# Altium footprint library Connectors-usb.PcbLib: 1 footprints
Each footprint in its own frame and in the unit in brackets; x right, y up, seen from the top. Pads: shape width x height; smd on the part's side, far side on the other; paste and mask are expansions set on the pad; w line width, h text height; cw(c..) or ccw(c..) is an arc to the next point about the centre after c.
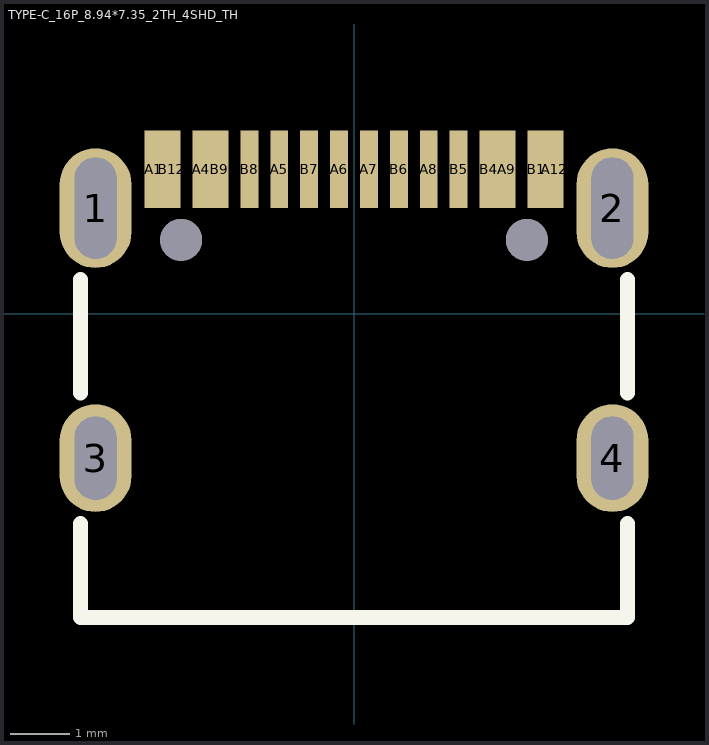
[diagram p0: the footprint, top view; thin cyan lines are the x and y axes]

## TYPE-C_16P_8.94*7.35_2TH_4SHD_TH [mm]
pads (22):
  oval 1.2x2 hole 0.7 slot 1.7 at 90 deg: 1(-4.32,1.765) 2(4.32,1.765)
  oval 1.2x1.8 hole 0.7 slot 1.4 at 90 deg: 3(-4.32,-2.415) 4(4.32,-2.415)
  rect 0.3x1.3 smd: A1(-3.35,2.415) A4(-2.55,2.415) A5(-1.25,2.415) A6(-0.25,2.415) A7(0.25,2.415) A8(1.25,2.415) A9(2.55,2.415) A12(3.35,2.415) B1(3.05,2.415) B4(2.25,2.415) B5(1.75,2.415) B6(0.75,2.415) B7(-0.75,2.415) B8(-1.75,2.415) B9(-2.25,2.415) B12(-3.05,2.415)
  round 0.7 hole 0.7 unplated: ""(-2.89,1.235) ""(2.89,1.235)
Top Overlay:
  lines w0.254: -4.572,-3.507 -4.572,-5.08 4.572,-5.08 4.572,-3.507 ; -4.572,-1.323 -4.572,0.573 ; 4.572,-1.323 4.572,0.573
Top Paste:
  region: 3.72,-2.115 3.722,-1.997 3.814,-1.779 3.983,-1.612 4.202,-1.522 4.439,-1.522 4.658,-1.612 4.827,-1.779 4.919,-1.997 4.92,-2.115 4.92,-2.715 4.919,-2.834 4.827,-3.052 4.658,-3.218 4.439,-3.309 4.202,-3.309 3.983,-3.218 3.814,-3.052 3.722,-2.834 3.72,-2.715
  region: 3.72,2.165 3.722,2.283 3.814,2.502 3.983,2.668 4.202,2.758 4.439,2.758 4.658,2.668 4.827,2.502 4.919,2.283 4.92,2.165 4.92,1.365 4.919,1.246 4.827,1.028 4.658,0.862 4.439,0.772 4.202,0.772 3.983,0.862 3.814,1.028 3.722,1.246 3.72,1.365
  region: -4.92,-2.115 -4.92,-1.996 -4.828,-1.775 -4.66,-1.607 -4.439,-1.515 -4.2,-1.515 -3.98,-1.607 -3.811,-1.775 -3.72,-1.996 -3.72,-2.115 -3.72,-2.715 -3.72,-2.835 -3.811,-3.055 -3.98,-3.224 -4.2,-3.315 -4.439,-3.315 -4.66,-3.224 -4.828,-3.055 -4.92,-2.835 -4.92,-2.715
  region: -4.92,2.165 -4.92,2.284 -4.828,2.505 -4.66,2.674 -4.439,2.765 -4.2,2.765 -3.98,2.674 -3.811,2.505 -3.72,2.284 -3.72,2.165 -3.72,1.365 -3.72,1.245 -3.811,1.025 -3.98,0.856 -4.2,0.765 -4.439,0.765 -4.66,0.856 -4.828,1.025 -4.92,1.245 -4.92,1.365
  region: 1.1,3.06 1.4,3.06 1.4,1.77 1.1,1.77
  region: 0.6,3.06 0.9,3.06 0.9,1.77 0.6,1.77
  region: -1.9,3.06 -1.6,3.06 -1.6,1.77 -1.9,1.77
  region: -1.43,3.025 -1.13,3.025 -1.13,1.735 -1.43,1.735
  region: -0.9,3.06 -0.6,3.06 -0.6,1.77 -0.9,1.77
  region: -0.4,3.06 -0.1,3.06 -0.1,1.77 -0.4,1.77
  region: 0.1,3.06 0.4,3.06 0.4,1.77 0.1,1.77
  region: 1.6,3.06 1.9,3.06 1.9,1.77 1.6,1.77
  region: -2.65,3.01 -2.15,3.01 -2.15,1.82 -2.65,1.82
  region: 2.15,3.01 2.65,3.01 2.65,1.82 2.15,1.82
  region: 2.95,3.01 3.45,3.01 3.45,1.82 2.95,1.82
  region: -3.45,3.01 -2.95,3.01 -2.95,1.82 -3.45,1.82
3D body "ltypec00.stp": height 3.18, standoff -1.08, extent -4.495,-5.018 4.445,2.732